# Altium schematic symbol library 691 336 500 0xx.SchLib: 6 symbols
Pins are listed as number, name and electrical type; pins without a type are passive.

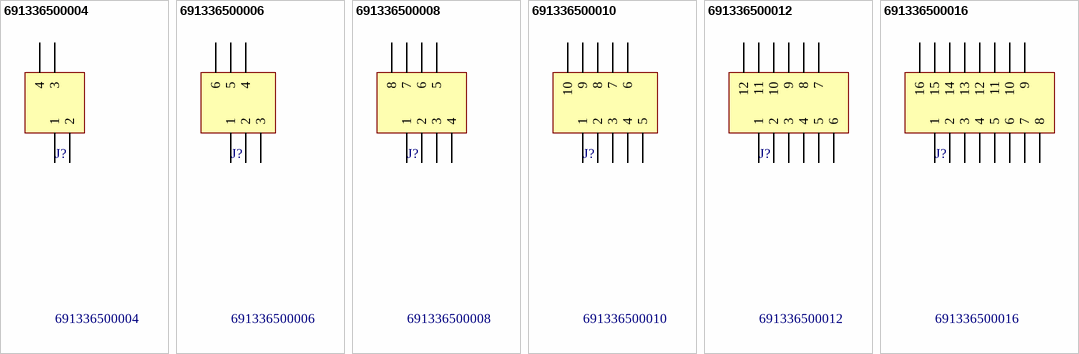
[diagram p0: symbols 691336500004 to 691336500016]

## 691336500004
designator J?
WR-TBL Terminal Blocks Serie 3365 - 5.08 mm; Manufacturer: Würth Elektronik eiSos GmbH; ComponentLink1 Description: Manufacturer; ComponentLink2 Description: Datasheet; NoPins: 04; Created Date: 9 January 2014; partNo: 691336500004; ComponentLink1URL: http://www.we-online.com; ComponentLink2URL: http://katalog.we-online.de/em/datasheet/6913365000xx.pdf; Created by: Karrer Zheng; Value: 691336500004
footprint 691336500004 (5,08mm - PCB - Dual row - Staggered - Vertical - Closed - 04p)
pins: 1, 2, 3, 4

## 691336500006
designator J?
WR-TBL Terminal Blocks Serie 3365 - 5.08 mm; Manufacturer: Würth Elektronik eiSos GmbH; ComponentLink1 Description: Manufacturer; ComponentLink2 Description: Datasheet; NoPins: 06; Created Date: 9 January 2014; partNo: 691336500006; ComponentLink1URL: http://www.we-online.com; ComponentLink2URL: http://katalog.we-online.de/em/datasheet/6913365000xx.pdf; Created by: Karrer Zheng; Value: 691336500006
footprint 691336500006 (5,08mm - PCB - Dual row - Staggered - Vertical - Closed - 06p)
pins: 1, 2, 3, 4, 5, 6

## 691336500008
designator J?
WR-TBL Terminal Blocks Serie 3365 - 5.08 mm; Manufacturer: Würth Elektronik eiSos GmbH; ComponentLink1 Description: Manufacturer; ComponentLink2 Description: Datasheet; NoPins: 08; Created Date: 9 January 2014; partNo: 691336500008; ComponentLink1URL: http://www.we-online.com; ComponentLink2URL: http://katalog.we-online.de/em/datasheet/6913365000xx.pdf; Created by: Karrer Zheng; Value: 691336500008
footprint 691336500008 (5,08mm - PCB - Dual row - Staggered - Vertical - Closed - 08p)
pins: 1, 2, 3, 4, 5, 6, 7, 8

## 691336500010
designator J?
WR-TBL Terminal Blocks Serie 3365 - 5.08 mm; Manufacturer: Würth Elektronik eiSos GmbH; ComponentLink1 Description: Manufacturer; ComponentLink2 Description: Datasheet; NoPins: 10; Created Date: 9 January 2014; partNo: 691336500010; ComponentLink1URL: http://www.we-online.com; ComponentLink2URL: http://katalog.we-online.de/em/datasheet/6913365000xx.pdf; Created by: Karrer Zheng; Value: 691336500010
footprint 691336500010 (5,08mm - PCB - Dual row - Staggered - Vertical - Closed - 10p)
pins: 1, 2, 3, 4, 5, 6, 7, 8, 9, 10

## 691336500012
designator J?
WR-TBL Terminal Blocks Serie 3365 - 5.08 mm; Manufacturer: Würth Elektronik eiSos GmbH; ComponentLink1 Description: Manufacturer; ComponentLink2 Description: Datasheet; NoPins: 12; Created Date: 9 January 2014; partNo: 691336500012; ComponentLink1URL: http://www.we-online.com; ComponentLink2URL: http://katalog.we-online.de/em/datasheet/6913365000xx.pdf; Created by: Karrer Zheng; Value: 691336500012
footprint 691336500012 (5,08mm - PCB - Dual row - Staggered - Vertical - Closed - 12p)
pins: 1, 2, 3, 4, 5, 6, 7, 8, 9, 10, 11, 12

## 691336500016
designator J?
WR-TBL Terminal Blocks Serie 3365 - 5.08 mm; Manufacturer: Würth Elektronik eiSos GmbH; ComponentLink1 Description: Manufacturer; ComponentLink2 Description: Datasheet; NoPins: 16; Created Date: 9 January 2014; partNo: 691336500016; ComponentLink1URL: http://www.we-online.com; ComponentLink2URL: http://katalog.we-online.de/em/datasheet/6913365000xx.pdf; Created by: Karrer Zheng; Value: 691336500016
footprint 691336500016 (5,08mm - PCB - Dual row - Staggered - Vertical - Closed - 16p)
pins: 1, 2, 3, 4, 5, 6, 7, 8, 9, 10, 11, 12, 13, 14, 15, 16